# EAGLE library part CON-MINI_USB-AB (library zz-m-pad-2.1)
Various Mini-USB Type AB Connectors
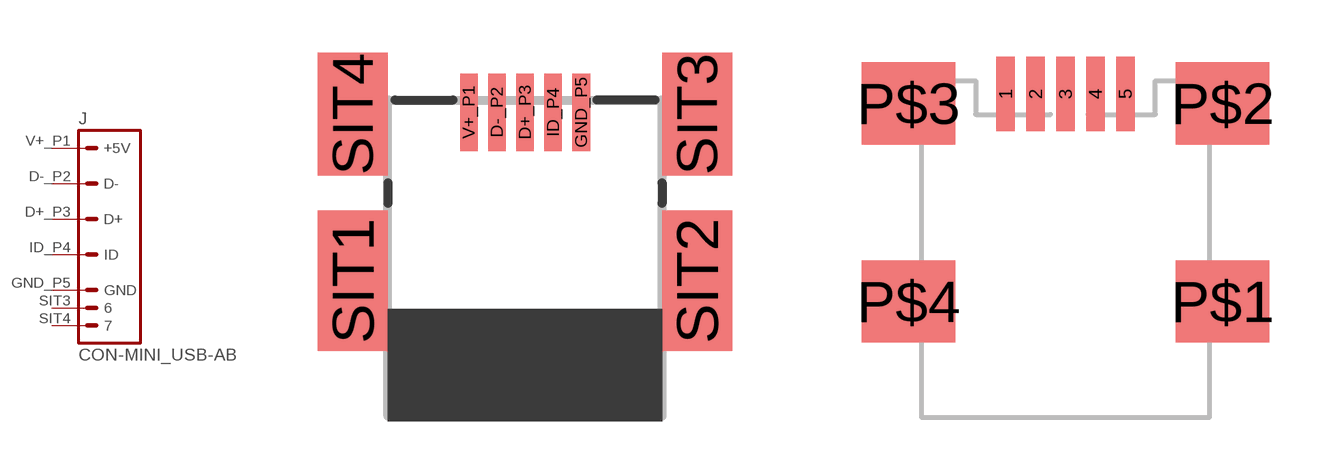
[diagram p125: symbol with the pads of USB-MINI-B; footprints USB-MINI-B, UX60A-MB-5ST]

Designator prefix J

## CON-MINI_USB-AB-1  [USB-MINI-B]
D+_P3  D+  pas
D-_P2  D-  pas
GND_P5  GND  pas
ID_P4  ID  pas
SIT3  6  pas
SIT4  7  pas
V+_P1  +5V  pas

## CON-MINI_USB-AB-2  [UX60A-MB-5ST]
1  +5V  pas
2  D-  pas
3  D+  pas
4  ID  pas
5  GND  pas
P$2  6  pas
P$3  7  pas

## CON-MINI_USB-AB-3  [UX60-MB-5ST]
Pads as for UX60A-MB-5ST

## Footprint USB-MINI-B (pad centres in mm)
MOLEX USB type mini-B surface mount connector digikey part#: WM2499CT-ND $2.38CAN each
smd 0.5 x 2.2: D+_P3 0,3.5; D-_P2 -0.8,3.5; GND_P5 1.6,3.5; ID_P4 0.8,3.5; V+_P1 -1.6,3.5
smd 2 x 4: SIT1 -4.9,-1.3; SIT2 4.9,-1.3
smd 2 x 3.5: SIT3 4.9,3.45; SIT4 -4.9,3.45

## Footprint UX60A-MB-5ST (pad centres in mm)
Hirose's UX Series Mini-USB-Type A/B Connector Metal Shield SMT Type Without Positioning Post Features: 1. Certified to perform as required in USB 2.0 Standard Tested and certified by USB Association approved laboratory the connectors will perform at transmission speeds up to 480Mbps. 2. Designed for Low Skew performance The distance between twisted pairs conductors (i.e., contact nos. 2 and 3) is of equal electrical length, for receptacle and plug, resulting in zero theoretical skew. 3. Controlled Termination of Individual Conductors The termination part of the contact is firmly attached in the molded insulator body. Hirose?s Electric unique design of the metal shield prevents short circuits, allowing the overmold resin to flow in the terminated area. By not using heat shrinkable tubing (or any other additional process), the non-twisted part of the conductors is very short, suppressing any unwanted impedance disturbances in the termination area. 4. Ease of mating and handling Thin design of the plug assembly and the overmold section allows use in small spaces. The plug also incorporates a build-in snap-lock feature, providing tactile verification of the full and secure mating of plug and receptacle. 5. Two types of metal shields Two styles of the receptacle metal shield are available, depending on the customer?s PCB design requirement: -Surface Mount Termination -Solder Dip Type 6. Printed Circuit Board placement features Precise location on the board can be accomplished using receptacle assemblies with or without the positioning boss. 7. Board placement with Automatic Equipment Receptacle assemblies are provided with a heat resistant flat surfaces, removable after completion of the soldering process and are supplied on the reels. 8. Environmental considerations Plating is lead-free in order to protect environment. 9. Support of Non-halogen Cable Wiring harness can be arranged in non-halogen cable types. Note: Non-halogen items are not covered in the current USB 2.0 Standard. Applications: Personal and mobile computer peripheral equipment data terminals digital cameras MP3 players PDA's GPS Other devices utilizing standard USB protocols Please send any comments to: messi@users.sourceforge.net
smd 0.5 x 2: 1 -5.45,-1.05; 2 -4.65,-1.05; 3 -3.85,-1.05; 4 -3.05,-1.05; 5 -2.25,-1.05
smd 2.5 x 2.2: P$1 0.35,-6.6; P$2 0.35,-1.3; P$3 -8.05,-1.3; P$4 -8.05,-6.6

## Footprint UX60-MB-5ST (pad centres in mm)
Hirose's UX Series Mini-USB-Type A/B Connector Metal Shield SMT Type With Positioning Post Features: 1. Certified to perform as required in USB 2.0 Standard Tested and certified by USB Association approved laboratory the connectors will perform at transmission speeds up to 480Mbps. 2. Designed for Low Skew performance The distance between twisted pairs conductors (i.e., contact nos. 2 and 3) is of equal electrical length, for receptacle and plug, resulting in zero theoretical skew. 3. Controlled Termination of Individual Conductors The termination part of the contact is firmly attached in the molded insulator body. Hirose?s Electric unique design of the metal shield prevents short circuits, allowing the overmold resin to flow in the terminated area. By not using heat shrinkable tubing (or any other additional process), the non-twisted part of the conductors is very short, suppressing any unwanted impedance disturbances in the termination area. 4. Ease of mating and handling Thin design of the plug assembly and the overmold section allows use in small spaces. The plug also incorporates a build-in snap-lock feature, providing tactile verification of the full and secure mating of plug and receptacle. 5. Two types of metal shields Two styles of the receptacle metal shield are available, depending on the customer?s PCB design requirement: -Surface Mount Termination -Solder Dip Type 6. Printed Circuit Board placement features Precise location on the board can be accomplished using receptacle assemblies with or without the positioning boss. 7. Board placement with Automatic Equipment Receptacle assemblies are provided with a heat resistant flat surfaces, removable after completion of the soldering process and are supplied on the reels. 8. Environmental considerations Plating is lead-free in order to protect environment. 9. Support of Non-halogen Cable Wiring harness can be arranged in non-halogen cable types. Note: Non-halogen items are not covered in the current USB 2.0 Standard. Applications: Personal and mobile computer peripheral equipment data terminals digital cameras MP3 players PDA's GPS Other devices utilizing standard USB protocols Please send any comments to: messi@users.sourceforge.net
smd 0.5 x 2: 1 -1.6,2.25; 2 -0.8,2.25; 3 0,2.25; 4 0.8,2.25; 5 1.6,2.25
smd 2.5 x 2.2: P$1 4.2,-3.3; P$2 4.2,2; P$3 -4.2,2; P$4 -4.2,-3.3
hole 0.9 at -1.75,0
hole 0.9 at 1.75,0